# Altium schematic symbol library 1N4148W_C727110.SCHLIB: 1 symbol
Pins are listed as number, name and electrical type; pins without a type are passive.

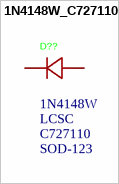
[diagram p0: symbol 1N4148W_C727110]

## 1N4148W_C727110
designator D??, comment Supplier Part: C727110  Supplier Footprint: SOD-123  Supplier: LCSC  (hidden comment: 1N4148W)
Manufacturer: TWGMC(台湾迪嘉); Symbol: 1N4148W_C727110; Current - Rectified: 300mA; Pd - Power Dissipation: 400mW; Reverse Leakage Current (Ir): 1uA; Non-Repetitive Peak Forward Surge Current: 4A; Add into BOM: yes; Diode Configuration: Independent; Voltage - DC Reverse(Vr): 100V; Reverse Recovery Time (trr): 8ns; Operating Junction Temperature Range: -55℃~+150℃@(Tj); Device: 1N4148W_C727110; LCSC Part Name: 1N4148W; JLCPCB Part Class: Extended Part; Datasheet: https://item.szlcsc.com/datasheet/1N4148W/774215.html; Convert to PCB: yes; Voltage - Forward(Vf@If): -; Manufacturer Part: 1N4148W
footprint SOD-123_L3.1-W1.7-LS3.7-RD
3D model SOD-123_L2.7-W1.6-H1.4-LS3.7
pins: 1 K, 2 A